# EAGLE library part L6470 (library hmcfabstudio)
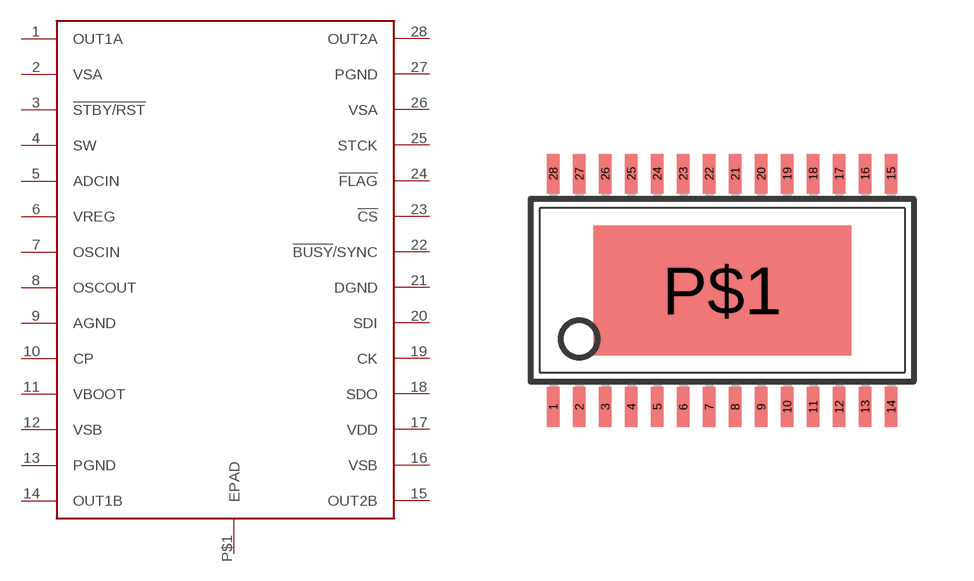
[diagram p11: symbol with the pads of TSSOP28_HEATSINK; footprint TSSOP28_HEATSINK]

Designator prefix -

## L6470  [TSSOP28_HEATSINK]
1  OUT1A
2  VSA
3  !STBY/RST!
4  SW
5  ADCIN
6  VREG
7  OSCIN
8  OSCOUT
9  AGND
10  CP
11  VBOOT
12  VSB
13  PGND
14  OUT1B
15  OUT2B
16  VSB
17  VDD
18  SDO
19  CK
20  SDI
21  DGND
22  !BUSY!/SYNC
23  !CS!
24  !FLAG!
25  STCK
26  VSA
27  PGND
28  OUT2A
P$1  EPAD

## Footprint TSSOP28_HEATSINK (pad centres in mm)
28-pin Thin Shrink Small Outline Package
smd 0.305 x 0.991: 1 -4.225,-2.918; 2 -3.575,-2.918; 3 -2.925,-2.918; 4 -2.275,-2.918; 5 -1.625,-2.918; 6 -0.975,-2.918; 7 -0.325,-2.918; 8 0.325,-2.918; 9 0.975,-2.918; 10 1.625,-2.918; 11 2.275,-2.918; 12 2.925,-2.918; 13 3.575,-2.918; 14 4.225,-2.918; 15 4.225,2.918; 16 3.575,2.918; 17 2.925,2.918; 18 2.275,2.918; 19 1.625,2.918; 20 0.975,2.918; 21 0.325,2.918; 22 -0.325,2.918; 23 -0.975,2.918; 24 -1.625,2.918; 25 -2.275,2.918; 26 -2.925,2.918; 27 -3.575,2.918; 28 -4.225,2.918
smd 6.452 x 3.251: P$1 0,0